# EAGLE library part SSCMNNN015PA (library daqcs)
TruStability® Board Mount Pressure Sensors SSC Series—Standard Accuracy, Compensated/Amplified ±1.6 mbar to ±10 bar | ±160 Pa to ±1 MPa | ±0.5 inH2O to ±150 psi Digital or Analog Output
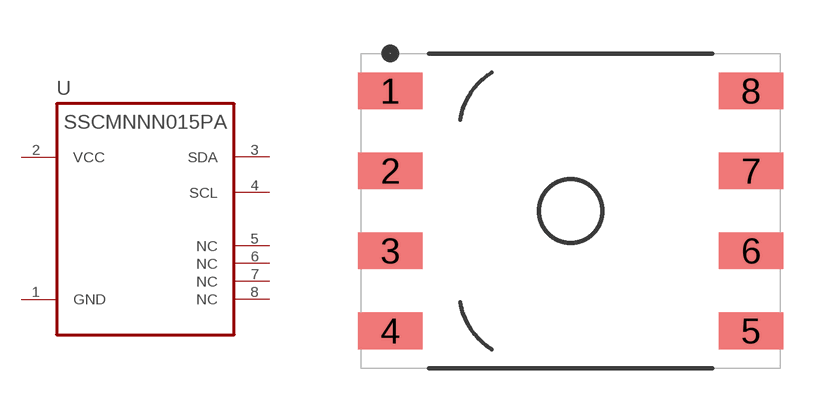
[diagram p5: symbol with the pads of SMD254P205X116-8N; footprint SMD254P205X116-8N]

Designator prefix U

## SSCMNNN015PA2A3_8SMD (INTERFACE: I2C; MANUFACTURER: Honeywell; MANUFACTURER_PN: SSCMNNN015PA2A3; OUTPUT_BITS: 12b; PRESSURE_TYPE: Absolute; VALUE: SSCMNNN015PA2A3; VENDOR: Digi-key; VENDOR_PN: 480-5204-ND)  [SMD254P205X116-8N]
1  GND  pwr
2  VCC  pwr
3  SDA
4  SCL  in
5  NC  nc
6  NC  nc
7  NC  nc
8  NC  nc

## Footprint SMD254P205X116-8N (pad centres in mm)
smd 2.05 x 1.16: 1 -5.725,3.81; 2 -5.725,1.27; 3 -5.725,-1.27; 4 -5.725,-3.81; 5 5.725,-3.81; 6 5.725,-1.27; 7 5.725,1.27; 8 5.725,3.81